# Altium integrated library WE-LQS_rev15b.intlib: 147 symbols (part 2 of 2)
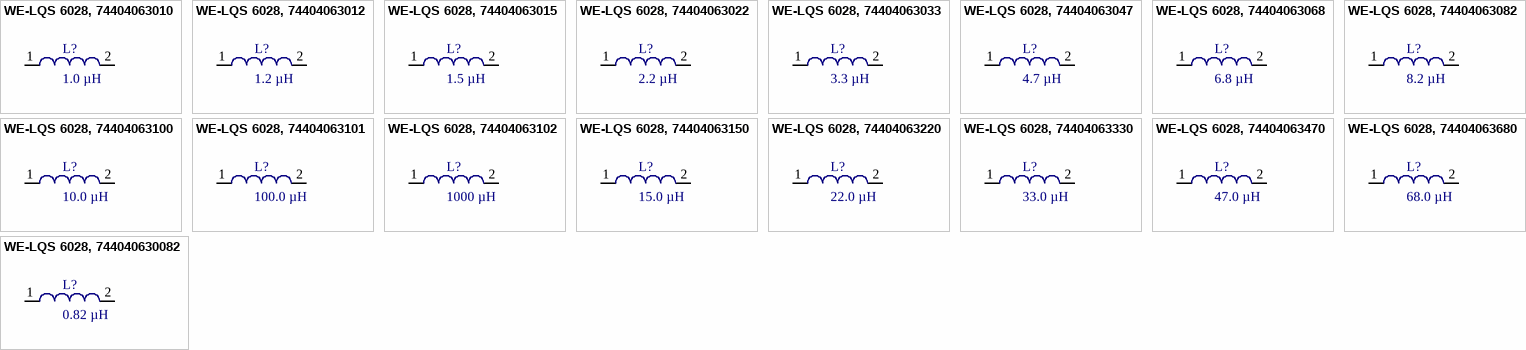
[diagram p9: symbols WE-LQS 6028, 74404063010 to WE-LQS 6028, 744040630082]

## WE-LQS 6028, 74404063680
designator L?, comment 68.0 µH
WE-LQS SMD Power Inductor, L=68.0 µH; partNo: 74404063680; Manufacturer: Wurth Elektronik; Inductance: 68.0 µH; ComponentLink1Description: Manufacturer; ComponentLink1URL: http://www.we-online.de; Created by: Karrer Zheng; Created Date: May 2014; ComponentLink2Description: Datasheet; ComponentLink2URL: http://katalog.we-online.de/pbs/datasheet/74404063680.pdf
footprint WE-LQS 6028 (SMD Power Inductor, 2-Leads, Body 6.0x6.0mm)
pins: 1, 2

## WE-LQS 6028, 744040630082
designator L?, comment 0.82 µH
WE-LQS SMD Power Inductor, L=0.82 µH; partNo: 744040630082; Manufacturer: Wurth Elektronik; Inductance: 0.82 µH; ComponentLink1Description: Manufacturer; ComponentLink1URL: http://www.we-online.de; Created by: Baojun Chen; Created Date: Aug. 2015; ComponentLink2Description: Datasheet; ComponentLink2URL: http://katalog.we-online.de/pbs/datasheet/744040630082.pdf
footprint WE-LQS 6028 (SMD Power Inductor, 2-Leads, Body 6.0x6.0mm)
pins: 1, 2


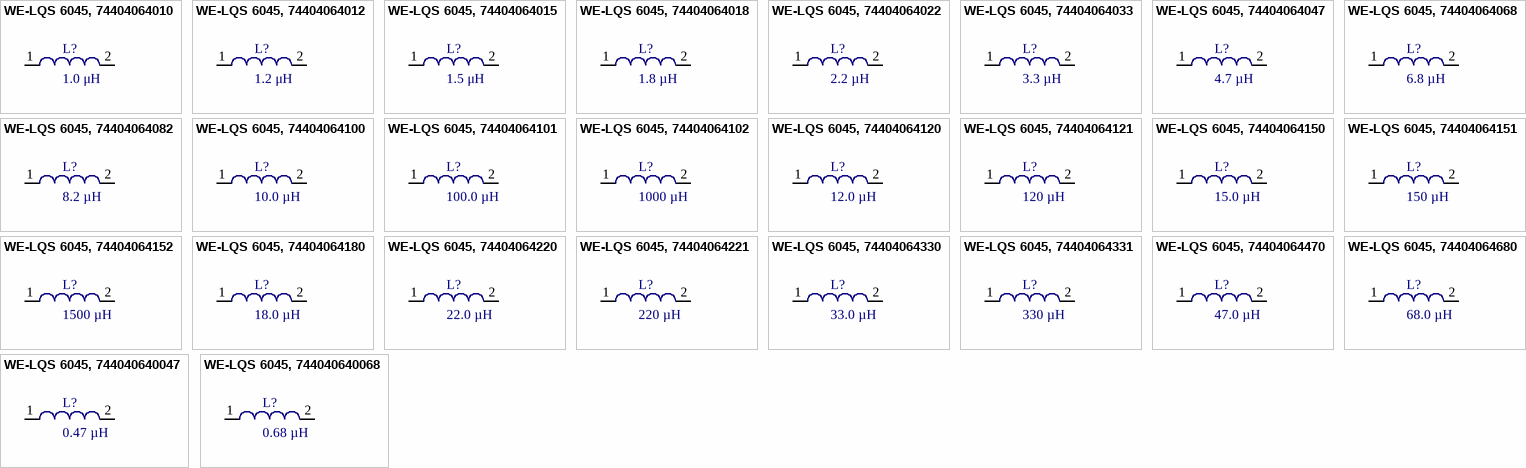
[diagram p7: symbols WE-LQS 6045, 74404064010 to WE-LQS 6045, 744040640068]

## WE-LQS 6045, 74404064010
designator L?, comment 1.0 μH
WE-LQS SMD Power Inductor, L=1.0μH; partNo: 74404064010; Manufacturer: Wurth Elektronik; Inductance: 1.0 μH; ComponentLink1Description: Manufacturer; ComponentLink1URL: http://www.we-online.de; Created by: Karrer Zheng; Created Date: May 2014; ComponentLink2Description: Datasheet; ComponentLink2URL: http://katalog.we-online.de/pbs/datasheet/74404064010.pdf
footprint WE-LQS 6045 (SMD Power Inductor, 2-Leads, Body 6.0x6.0mm)
pins: 1, 2

## WE-LQS 6045, 74404064012
designator L?, comment 1.2 μH
WE-LQS SMD Power Inductor, L=1.2μH; partNo: 74404064012; Manufacturer: Wurth Elektronik; Inductance: 1.2 μH; ComponentLink1Description: Manufacturer; ComponentLink1URL: http://www.we-online.de; Created by: Karrer Zheng; Created Date: May 2014; ComponentLink2Description: Datasheet; ComponentLink2URL: http://katalog.we-online.de/pbs/datasheet/74404064012.pdf
footprint WE-LQS 6045 (SMD Power Inductor, 2-Leads, Body 6.0x6.0mm)
pins: 1, 2

## WE-LQS 6045, 74404064015
designator L?, comment 1.5 μH
WE-LQS SMD Power Inductor, L=1.5 μH; partNo: 74404064015; Manufacturer: Wurth Elektronik; Inductance: 1.5 μH; ComponentLink1Description: Manufacturer; ComponentLink1URL: http://www.we-online.de; Created by: Karrer Zheng; Created Date: May 2014; ComponentLink2Description: Datasheet; ComponentLink2URL: http://katalog.we-online.de/pbs/datasheet/74404064015.pdf
footprint WE-LQS 6045 (SMD Power Inductor, 2-Leads, Body 6.0x6.0mm)
pins: 1, 2

## WE-LQS 6045, 74404064018
designator L?, comment 1.8 µH
WE-LQS SMD Power Inductor, L=1.8 µH; partNo: 74404064018; Manufacturer: Wurth Elektronik; Inductance: 1.8 µH; ComponentLink1Description: Manufacturer; ComponentLink1URL: http://www.we-online.de; Created by: Karrer Zheng; Created Date: May 2014; ComponentLink2Description: Datasheet; ComponentLink2URL: http://katalog.we-online.de/pbs/datasheet/74404064018.pdf
footprint WE-LQS 6045 (SMD Power Inductor, 2-Leads, Body 6.0x6.0mm)
pins: 1, 2

## WE-LQS 6045, 74404064022
designator L?, comment 2.2 µH
WE-LQS SMD Power Inductor, L=2.2 µH; partNo: 744040640022; Manufacturer: Wurth Elektronik; Inductance: 2.2 µH; ComponentLink1Description: Manufacturer; ComponentLink1URL: http://www.we-online.de; Created by: Karrer Zheng; Created Date: May 2014; ComponentLink2Description: Datasheet; ComponentLink2URL: http://katalog.we-online.de/pbs/datasheet/74404064022.pdf
footprint WE-LQS 6045 (SMD Power Inductor, 2-Leads, Body 6.0x6.0mm)
pins: 1, 2

## WE-LQS 6045, 74404064033
designator L?, comment 3.3 µH
WE-LQS SMD Power Inductor, L=3.3 µH; partNo: 74404064033; Manufacturer: Wurth Elektronik; Inductance: 3.3 µH; ComponentLink1Description: Manufacturer; ComponentLink1URL: http://www.we-online.de; Created by: Karrer Zheng; Created Date: May 2014; ComponentLink2Description: Datasheet; ComponentLink2URL: http://katalog.we-online.de/pbs/datasheet/74404064033.pdf
footprint WE-LQS 6045 (SMD Power Inductor, 2-Leads, Body 6.0x6.0mm)
pins: 1, 2

## WE-LQS 6045, 74404064047
designator L?, comment 4.7 µH
WE-LQS SMD Power Inductor, L=4.7 µH; partNo: 74404064047; Manufacturer: Wurth Elektronik; Inductance: 4.7 µH; ComponentLink1Description: Manufacturer; ComponentLink1URL: http://www.we-online.de; Created by: Karrer Zheng; Created Date: May 2014; ComponentLink2Description: Datasheet; ComponentLink2URL: http://katalog.we-online.de/pbs/datasheet/74404064047.pdf
footprint WE-LQS 6045 (SMD Power Inductor, 2-Leads, Body 6.0x6.0mm)
pins: 1, 2

## WE-LQS 6045, 74404064068
designator L?, comment 6.8 µH
WE-LQS SMD Power Inductor, L=6.8 µH; partNo: 74404064068; Manufacturer: Wurth Elektronik; Inductance: 6.8 µH; ComponentLink1Description: Manufacturer; ComponentLink1URL: http://www.we-online.de; Created by: Karrer Zheng; Created Date: May 2014; ComponentLink2Description: Datasheet; ComponentLink2URL: http://katalog.we-online.de/pbs/datasheet/74404064068.pdf
footprint WE-LQS 6045 (SMD Power Inductor, 2-Leads, Body 6.0x6.0mm)
pins: 1, 2

## WE-LQS 6045, 74404064082
designator L?, comment 8.2 µH
WE-LQS SMD Power Inductor, L=8.2 µH; partNo: 74404064082; Manufacturer: Wurth Elektronik; Inductance: 8.2 µH; ComponentLink1Description: Manufacturer; ComponentLink1URL: http://www.we-online.de; Created by: Karrer Zheng; Created Date: May 2014; ComponentLink2Description: Datasheet; ComponentLink2URL: http://katalog.we-online.de/pbs/datasheet/74404064082.pdf
footprint WE-LQS 6045 (SMD Power Inductor, 2-Leads, Body 6.0x6.0mm)
pins: 1, 2

## WE-LQS 6045, 74404064100
designator L?, comment 10.0 µH
WE-LQS SMD Power Inductor, L=10.0 µH; partNo: 74404064100; Manufacturer: Wurth Elektronik; Inductance: 10.0 µH; ComponentLink1Description: Manufacturer; ComponentLink1URL: http://www.we-online.de; Created by: Karrer Zheng; Created Date: May 2014; ComponentLink2Description: Datasheet; ComponentLink2URL: http://katalog.we-online.de/pbs/datasheet/74404064100.pdf
footprint WE-LQS 6045 (SMD Power Inductor, 2-Leads, Body 6.0x6.0mm)
pins: 1, 2

## WE-LQS 6045, 74404064101
designator L?, comment 100.0 µH
WE-LQS SMD Power Inductor, L=100.0 µH; partNo: 74404064101; Manufacturer: Wurth Elektronik; Inductance: 100.0 µH; ComponentLink1Description: Manufacturer; ComponentLink1URL: http://www.we-online.de; Created by: Karrer Zheng; Created Date: May 2014; ComponentLink2Description: Datasheet; ComponentLink2URL: http://katalog.we-online.de/pbs/datasheet/74404064101.pdf
footprint WE-LQS 6045 (SMD Power Inductor, 2-Leads, Body 6.0x6.0mm)
pins: 1, 2

## WE-LQS 6045, 74404064102
designator L?, comment 1000 µH
WE-LQS SMD Power Inductor, L=1000 µH; partNo: 74404064102; Manufacturer: Wurth Elektronik; Inductance: 1000 µH; ComponentLink1Description: Manufacturer; ComponentLink1URL: http://www.we-online.de; Created by: Baojun Chen; Created Date: Aug. 2015; ComponentLink2Description: Datasheet; ComponentLink2URL: http://katalog.we-online.de/pbs/datasheet/74404064102.pdf
footprint WE-LQS 6045 (SMD Power Inductor, 2-Leads, Body 6.0x6.0mm)
pins: 1, 2

## WE-LQS 6045, 74404064120
designator L?, comment 12.0 µH
WE-LQS SMD Power Inductor, L=12.0 µH; partNo: 74404064120; Manufacturer: Wurth Elektronik; Inductance: 12.0 µH; ComponentLink1Description: Manufacturer; ComponentLink1URL: http://www.we-online.de; Created by: Karrer Zheng; Created Date: May 2014; ComponentLink2Description: Datasheet; ComponentLink2URL: http://katalog.we-online.de/pbs/datasheet/74404064120.pdf
footprint WE-LQS 6045 (SMD Power Inductor, 2-Leads, Body 6.0x6.0mm)
pins: 1, 2

## WE-LQS 6045, 74404064121
designator L?, comment 120 µH
WE-LQS SMD Power Inductor, L=120 µH; partNo: 74404064121; Manufacturer: Wurth Elektronik; Inductance: 120 µH; ComponentLink1Description: Manufacturer; ComponentLink1URL: http://www.we-online.de; Created by: Baojun Chen; Created Date: Aug. 2015; ComponentLink2Description: Datasheet; ComponentLink2URL: http://katalog.we-online.de/pbs/datasheet/74404064121.pdf
footprint WE-LQS 6045 (SMD Power Inductor, 2-Leads, Body 6.0x6.0mm)
pins: 1, 2

## WE-LQS 6045, 74404064150
designator L?, comment 15.0 µH
WE-LQS SMD Power Inductor, L=15.0 µH; partNo: 74404064150; Manufacturer: Wurth Elektronik; Inductance: 15.0 µH; ComponentLink1Description: Manufacturer; ComponentLink1URL: http://www.we-online.de; Created by: Karrer Zheng; Created Date: May 2014; ComponentLink2Description: Datasheet; ComponentLink2URL: http://katalog.we-online.de/pbs/datasheet/74404064150.pdf
footprint WE-LQS 6045 (SMD Power Inductor, 2-Leads, Body 6.0x6.0mm)
pins: 1, 2

## WE-LQS 6045, 74404064151
designator L?, comment 150 µH
WE-LQS SMD Power Inductor, L=150 µH; partNo: 74404064151; Manufacturer: Wurth Elektronik; Inductance: 150 µH; ComponentLink1Description: Manufacturer; ComponentLink1URL: http://www.we-online.de; Created by: Baojun Chen; Created Date: Aug. 2015; ComponentLink2Description: Datasheet; ComponentLink2URL: http://katalog.we-online.de/pbs/datasheet/74404064151.pdf
footprint WE-LQS 6045 (SMD Power Inductor, 2-Leads, Body 6.0x6.0mm)
pins: 1, 2

## WE-LQS 6045, 74404064152
designator L?, comment 1500 µH
WE-LQS SMD Power Inductor, L=1500 µH; partNo: 74404064152; Manufacturer: Wurth Elektronik; Inductance: 1500 µH; ComponentLink1Description: Manufacturer; ComponentLink1URL: http://www.we-online.de; Created by: Baojun Chen; Created Date: Aug. 2015; ComponentLink2Description: Datasheet; ComponentLink2URL: http://katalog.we-online.de/pbs/datasheet/74404064152.pdf
footprint WE-LQS 6045 (SMD Power Inductor, 2-Leads, Body 6.0x6.0mm)
pins: 1, 2

## WE-LQS 6045, 74404064180
designator L?, comment 18.0 µH
WE-LQS SMD Power Inductor, L=18.0 µH; partNo: 74404064180; Manufacturer: Wurth Elektronik; Inductance: 18.0 µH; ComponentLink1Description: Manufacturer; ComponentLink1URL: http://www.we-online.de; Created by: Karrer Zheng; Created Date: May 2014; ComponentLink2Description: Datasheet; ComponentLink2URL: http://katalog.we-online.de/pbs/datasheet/74404064180.pdf
footprint WE-LQS 6045 (SMD Power Inductor, 2-Leads, Body 6.0x6.0mm)
pins: 1, 2

## WE-LQS 6045, 74404064220
designator L?, comment 22.0 µH
WE-LQS SMD Power Inductor, L=22.0 µH; partNo: 74404064220; Manufacturer: Wurth Elektronik; Inductance: 22.0 µH; ComponentLink1Description: Manufacturer; ComponentLink1URL: http://www.we-online.de; Created by: Karrer Zheng; Created Date: May 2014; ComponentLink2Description: Datasheet; ComponentLink2URL: http://katalog.we-online.de/pbs/datasheet/74404064220.pdf
footprint WE-LQS 6045 (SMD Power Inductor, 2-Leads, Body 6.0x6.0mm)
pins: 1, 2

## WE-LQS 6045, 74404064221
designator L?, comment 220 µH
WE-LQS SMD Power Inductor, L=220 µH; partNo: 74404064221; Manufacturer: Wurth Elektronik; Inductance: 220 µH; ComponentLink1Description: Manufacturer; ComponentLink1URL: http://www.we-online.de; Created by: Baojun Chen; Created Date: Aug. 2015; ComponentLink2Description: Datasheet; ComponentLink2URL: http://katalog.we-online.de/pbs/datasheet/74404064221.pdf
footprint WE-LQS 6045 (SMD Power Inductor, 2-Leads, Body 6.0x6.0mm)
pins: 1, 2

## WE-LQS 6045, 74404064330
designator L?, comment 33.0 µH
WE-LQS SMD Power Inductor, L=33.0 µH; partNo: 74404064330; Manufacturer: Wurth Elektronik; Inductance: 33.0 µH; ComponentLink1Description: Manufacturer; ComponentLink1URL: http://www.we-online.de; Created by: Karrer Zheng; Created Date: May 2014; ComponentLink2Description: Datasheet; ComponentLink2URL: http://katalog.we-online.de/pbs/datasheet/74404064330.pdf
footprint WE-LQS 6045 (SMD Power Inductor, 2-Leads, Body 6.0x6.0mm)
pins: 1, 2

## WE-LQS 6045, 74404064331
designator L?, comment 330 µH
WE-LQS SMD Power Inductor, L=330 µH; partNo: 74404064331; Manufacturer: Wurth Elektronik; Inductance: 330 µH; ComponentLink1Description: Manufacturer; ComponentLink1URL: http://www.we-online.de; Created by: Baojun Chen; Created Date: Aug. 2015; ComponentLink2Description: Datasheet; ComponentLink2URL: http://katalog.we-online.de/pbs/datasheet/74404064331.pdf
footprint WE-LQS 6045 (SMD Power Inductor, 2-Leads, Body 6.0x6.0mm)
pins: 1, 2

## WE-LQS 6045, 74404064470
designator L?, comment 47.0 µH
WE-LQS SMD Power Inductor, L=47.0 µH; partNo: 74404064470; Manufacturer: Wurth Elektronik; Inductance: 47.0 µH; ComponentLink1Description: Manufacturer; ComponentLink1URL: http://www.we-online.de; Created by: Karrer Zheng; Created Date: May 2014; ComponentLink2Description: Datasheet; ComponentLink2URL: http://katalog.we-online.de/pbs/datasheet/74404064470.pdf
footprint WE-LQS 6045 (SMD Power Inductor, 2-Leads, Body 6.0x6.0mm)
pins: 1, 2

## WE-LQS 6045, 74404064680
designator L?, comment 68.0 µH
WE-LQS SMD Power Inductor, L=68.0 µH; partNo: 74404064680; Manufacturer: Wurth Elektronik; Inductance: 68.0 µH; ComponentLink1Description: Manufacturer; ComponentLink1URL: http://www.we-online.de; Created by: Karrer Zheng; Created Date: May 2014; ComponentLink2Description: Datasheet; ComponentLink2URL: http://katalog.we-online.de/pbs/datasheet/74404064680.pdf
footprint WE-LQS 6045 (SMD Power Inductor, 2-Leads, Body 6.0x6.0mm)
pins: 1, 2

## WE-LQS 6045, 744040640047
designator L?, comment 0.47 µH
WE-LQS SMD Power Inductor, L=0.47 µH; partNo: 744040640047; Manufacturer: Wurth Elektronik; Inductance: 0.47 µH; ComponentLink1Description: Manufacturer; ComponentLink1URL: http://www.we-online.de; Created by: Baojun Chen; Created Date: Aug. 2015; ComponentLink2Description: Datasheet; ComponentLink2URL: http://katalog.we-online.de/pbs/datasheet/744040640047.pdf
footprint WE-LQS 6045 (SMD Power Inductor, 2-Leads, Body 6.0x6.0mm)
pins: 1, 2

## WE-LQS 6045, 744040640068
designator L?, comment 0.68 µH
WE-LQS SMD Power Inductor, L=0.68 µH; partNo: 744040640068; Manufacturer: Wurth Elektronik; Inductance: 0.68 µH; ComponentLink1Description: Manufacturer; ComponentLink1URL: http://www.we-online.de; Created by: Baojun Chen; Created Date: Aug. 2015; ComponentLink2Description: Datasheet; ComponentLink2URL: http://katalog.we-online.de/pbs/datasheet/744040640068.pdf
footprint WE-LQS 6045 (SMD Power Inductor, 2-Leads, Body 6.0x6.0mm)
pins: 1, 2


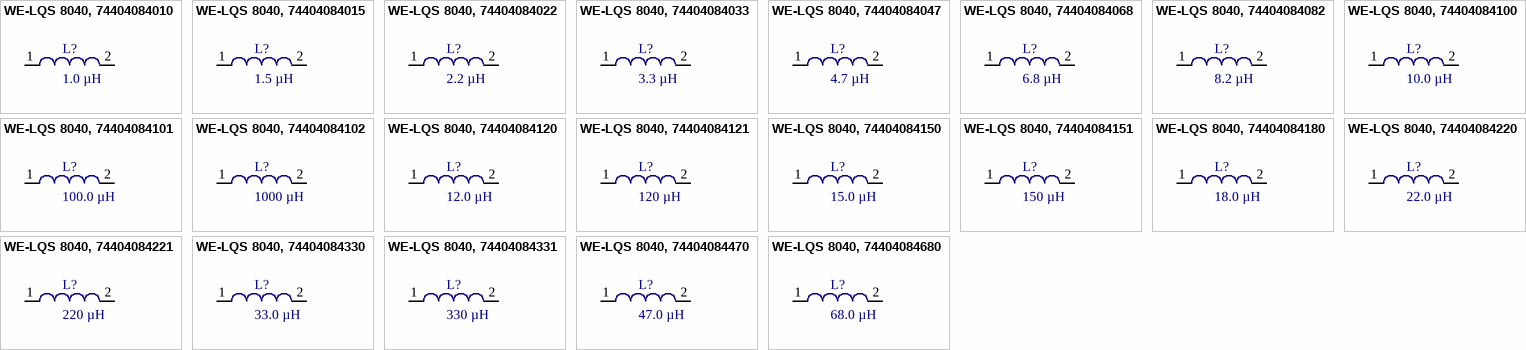
[diagram p8: symbols WE-LQS 8040, 74404084010 to WE-LQS 8040, 74404084680]

## WE-LQS 8040, 74404084010
designator L?, comment 1.0 µH
WE-LQS SMD Power Inductor, L=1.0 µH; partNo: 74404084010; Manufacturer: Wurth Elektronik; Inductance: 1.0 µH; ComponentLink1Description: Manufacturer; ComponentLink1URL: http://www.we-online.de; Created by: Karrer Zheng; Created Date: May 2014; ComponentLink2Description: Datasheet; ComponentLink2URL: http://katalog.we-online.de/pbs/datasheet/74404084010.pdf
footprint WE-LQS 8040 (SMD Power Inductor, 2-Leads, Body 8.0x8.0mm)
pins: 1, 2

## WE-LQS 8040, 74404084015
designator L?, comment 1.5 µH
WE-LQS SMD Power Inductor, L=1.5 µH; partNo: 74404084015; Manufacturer: Wurth Elektronik; Inductance: 1.5 µH; ComponentLink1Description: Manufacturer; ComponentLink1URL: http://www.we-online.de; Created by: Karrer Zheng; Created Date: May 2014; ComponentLink2Description: Datasheet; ComponentLink2URL: http://katalog.we-online.de/pbs/datasheet/74404084015.pdf
footprint WE-LQS 8040 (SMD Power Inductor, 2-Leads, Body 8.0x8.0mm)
pins: 1, 2

## WE-LQS 8040, 74404084022
designator L?, comment 2.2 µH
WE-LQS SMD Power Inductor, L=2.2 µH; partNo: 744040840022; Manufacturer: Wurth Elektronik; Inductance: 2.2 µH; ComponentLink1Description: Manufacturer; ComponentLink1URL: http://www.we-online.de; Created by: Karrer Zheng; Created Date: May 2014; ComponentLink2Description: Datasheet; ComponentLink2URL: http://katalog.we-online.de/pbs/datasheet/74404084022.pdf
footprint WE-LQS 8040 (SMD Power Inductor, 2-Leads, Body 8.0x8.0mm)
pins: 1, 2

## WE-LQS 8040, 74404084033
designator L?, comment 3.3 µH
WE-LQS SMD Power Inductor, L=3.3 µH; partNo: 74404084033; Manufacturer: Wurth Elektronik; Inductance: 3.3 µH; ComponentLink1Description: Manufacturer; ComponentLink1URL: http://www.we-online.de; Created by: Karrer Zheng; Created Date: May 2014; ComponentLink2Description: Datasheet; ComponentLink2URL: http://katalog.we-online.de/pbs/datasheet/74404084033.pdf
footprint WE-LQS 8040 (SMD Power Inductor, 2-Leads, Body 8.0x8.0mm)
pins: 1, 2

## WE-LQS 8040, 74404084047
designator L?, comment 4.7 µH
WE-LQS SMD Power Inductor, L=4.7 µH; partNo: 74404084047; Manufacturer: Wurth Elektronik; Inductance: 4.7 µH; ComponentLink1Description: Manufacturer; ComponentLink1URL: http://www.we-online.de; Created by: Karrer Zheng; Created Date: May 2014; ComponentLink2Description: Datasheet; ComponentLink2URL: http://katalog.we-online.de/pbs/datasheet/74404084047.pdf
footprint WE-LQS 8040 (SMD Power Inductor, 2-Leads, Body 8.0x8.0mm)
pins: 1, 2

## WE-LQS 8040, 74404084068
designator L?, comment 6.8 µH
WE-LQS SMD Power Inductor, L=6.8 µH; partNo: 74404084068; Manufacturer: Wurth Elektronik; Inductance: 6.8 µH; ComponentLink1Description: Manufacturer; ComponentLink1URL: http://www.we-online.de; Created by: Karrer Zheng; Created Date: May 2014; ComponentLink2Description: Datasheet; ComponentLink2URL: http://katalog.we-online.de/pbs/datasheet/74404084068.pdf
footprint WE-LQS 8040 (SMD Power Inductor, 2-Leads, Body 8.0x8.0mm)
pins: 1, 2

## WE-LQS 8040, 74404084082
designator L?, comment 8.2 µH
WE-LQS SMD Power Inductor, L=8.2 µH; partNo: 74404084082; Manufacturer: Wurth Elektronik; Inductance: 8.2 µH; ComponentLink1Description: Manufacturer; ComponentLink1URL: http://www.we-online.de; Created by: Karrer Zheng; Created Date: May 2014; ComponentLink2Description: Datasheet; ComponentLink2URL: http://katalog.we-online.de/pbs/datasheet/74404084082.pdf
footprint WE-LQS 8040 (SMD Power Inductor, 2-Leads, Body 8.0x8.0mm)
pins: 1, 2

## WE-LQS 8040, 74404084100
designator L?, comment 10.0 µH
WE-LQS SMD Power Inductor, L=10.0 µH; partNo: 74404084100; Manufacturer: Wurth Elektronik; Inductance: 10.0 µH; ComponentLink1Description: Manufacturer; ComponentLink1URL: http://www.we-online.de; Created by: Karrer Zheng; Created Date: May 2014; ComponentLink2Description: Datasheet; ComponentLink2URL: http://katalog.we-online.de/pbs/datasheet/74404084100.pdf
footprint WE-LQS 8040 (SMD Power Inductor, 2-Leads, Body 8.0x8.0mm)
pins: 1, 2

## WE-LQS 8040, 74404084101
designator L?, comment 100.0 µH
WE-LQS SMD Power Inductor, L=100.0 µH; partNo: 74404084101; Manufacturer: Wurth Elektronik; Inductance: 100.0 µH; ComponentLink1Description: Manufacturer; ComponentLink1URL: http://www.we-online.de; Created by: Karrer Zheng; Created Date: May 2014; ComponentLink2Description: Datasheet; ComponentLink2URL: http://katalog.we-online.de/pbs/datasheet/74404084101.pdf
footprint WE-LQS 8040 (SMD Power Inductor, 2-Leads, Body 8.0x8.0mm)
pins: 1, 2

## WE-LQS 8040, 74404084102
designator L?, comment 1000 µH
WE-LQS SMD Power Inductor, L=1000 µH; partNo: 74404084102; Manufacturer: Wurth Elektronik; Inductance: 1000 µH; ComponentLink1Description: Manufacturer; ComponentLink1URL: http://www.we-online.de; Created by: Baojun Chen; Created Date: Aug. 2015; ComponentLink2Description: Datasheet; ComponentLink2URL: http://katalog.we-online.de/pbs/datasheet/74404084102.pdf
footprint WE-LQS 8040 (SMD Power Inductor, 2-Leads, Body 8.0x8.0mm)
pins: 1, 2

## WE-LQS 8040, 74404084120
designator L?, comment 12.0 µH
WE-LQS SMD Power Inductor, L=12.0 µH; partNo: 74404084120; Manufacturer: Wurth Elektronik; Inductance: 12.0 µH; ComponentLink1Description: Manufacturer; ComponentLink1URL: http://www.we-online.de; Created by: Karrer Zheng; Created Date: May 2014; ComponentLink2Description: Datasheet; ComponentLink2URL: http://katalog.we-online.de/pbs/datasheet/74404084120.pdf
footprint WE-LQS 8040 (SMD Power Inductor, 2-Leads, Body 8.0x8.0mm)
pins: 1, 2

## WE-LQS 8040, 74404084121
designator L?, comment 120 µH
WE-LQS SMD Power Inductor, L=120 µH; partNo: 74404084121; Manufacturer: Wurth Elektronik; Inductance: 120 µH; ComponentLink1Description: Manufacturer; ComponentLink1URL: http://www.we-online.de; Created by: Baojun Chen; Created Date: Aug. 2015; ComponentLink2Description: Datasheet; ComponentLink2URL: http://katalog.we-online.de/pbs/datasheet/74404084121.pdf
footprint WE-LQS 8040 (SMD Power Inductor, 2-Leads, Body 8.0x8.0mm)
pins: 1, 2

## WE-LQS 8040, 74404084150
designator L?, comment 15.0 µH
WE-LQS SMD Power Inductor, L=15.0 µH; partNo: 74404084150; Manufacturer: Wurth Elektronik; Inductance: 15.0 µH; ComponentLink1Description: Manufacturer; ComponentLink1URL: http://www.we-online.de; Created by: Karrer Zheng; Created Date: May 2014; ComponentLink2Description: Datasheet; ComponentLink2URL: http://katalog.we-online.de/pbs/datasheet/74404084150.pdf
footprint WE-LQS 8040 (SMD Power Inductor, 2-Leads, Body 8.0x8.0mm)
pins: 1, 2

## WE-LQS 8040, 74404084151
designator L?, comment 150 µH
WE-LQS SMD Power Inductor, L=150 µH; partNo: 74404084151; Manufacturer: Wurth Elektronik; Inductance: 150 µH; ComponentLink1Description: Manufacturer; ComponentLink1URL: http://www.we-online.de; Created by: Baojun Chen; Created Date: Aug. 2015; ComponentLink2Description: Datasheet; ComponentLink2URL: http://katalog.we-online.de/pbs/datasheet/74404084151.pdf
footprint WE-LQS 8040 (SMD Power Inductor, 2-Leads, Body 8.0x8.0mm)
pins: 1, 2

## WE-LQS 8040, 74404084180
designator L?, comment 18.0 µH
WE-LQS SMD Power Inductor, L=18.0 µH; partNo: 74404084180; Manufacturer: Wurth Elektronik; Inductance: 18.0 µH; ComponentLink1Description: Manufacturer; ComponentLink1URL: http://www.we-online.de; Created by: Karrer Zheng; Created Date: May 2014; ComponentLink2Description: Datasheet; ComponentLink2URL: http://katalog.we-online.de/pbs/datasheet/74404084180.pdf
footprint WE-LQS 8040 (SMD Power Inductor, 2-Leads, Body 8.0x8.0mm)
pins: 1, 2

## WE-LQS 8040, 74404084220
designator L?, comment 22.0 µH
WE-LQS SMD Power Inductor, L=22.0 µH; partNo: 74404084220; Manufacturer: Wurth Elektronik; Inductance: 22.0 µH; ComponentLink1Description: Manufacturer; ComponentLink1URL: http://www.we-online.de; Created by: Karrer Zheng; Created Date: May 2014; ComponentLink2Description: Datasheet; ComponentLink2URL: http://katalog.we-online.de/pbs/datasheet/74404084220.pdf
footprint WE-LQS 8040 (SMD Power Inductor, 2-Leads, Body 8.0x8.0mm)
pins: 1, 2

## WE-LQS 8040, 74404084221
designator L?, comment 220 µH
WE-LQS SMD Power Inductor, L=220 µH; partNo: 74404084221; Manufacturer: Wurth Elektronik; Inductance: 220 µH; ComponentLink1Description: Manufacturer; ComponentLink1URL: http://www.we-online.de; Created by: Baojun Chen; Created Date: Aug. 2015; ComponentLink2Description: Datasheet; ComponentLink2URL: http://katalog.we-online.de/pbs/datasheet/74404084221.pdf
footprint WE-LQS 8040 (SMD Power Inductor, 2-Leads, Body 8.0x8.0mm)
pins: 1, 2

## WE-LQS 8040, 74404084330
designator L?, comment 33.0 µH
WE-LQS SMD Power Inductor, L=33.0 µH; partNo: 74404084330; Manufacturer: Wurth Elektronik; Inductance: 33.0 µH; ComponentLink1Description: Manufacturer; ComponentLink1URL: http://www.we-online.de; Created by: Karrer Zheng; Created Date: May 2014; ComponentLink2Description: Datasheet; ComponentLink2URL: http://katalog.we-online.de/pbs/datasheet/74404084330.pdf
footprint WE-LQS 8040 (SMD Power Inductor, 2-Leads, Body 8.0x8.0mm)
pins: 1, 2

## WE-LQS 8040, 74404084331
designator L?, comment 330 µH
WE-LQS SMD Power Inductor, L=330 µH; partNo: 74404084331; Manufacturer: Wurth Elektronik; Inductance: 330 µH; ComponentLink1Description: Manufacturer; ComponentLink1URL: http://www.we-online.de; Created by: Baojun Chen; Created Date: Aug. 2015; ComponentLink2Description: Datasheet; ComponentLink2URL: http://katalog.we-online.de/pbs/datasheet/74404084331.pdf
footprint WE-LQS 8040 (SMD Power Inductor, 2-Leads, Body 8.0x8.0mm)
pins: 1, 2

## WE-LQS 8040, 74404084470
designator L?, comment 47.0 µH
WE-LQS SMD Power Inductor, L=47.0 µH; partNo: 74404084470; Manufacturer: Wurth Elektronik; Inductance: 47.0 µH; ComponentLink1Description: Manufacturer; ComponentLink1URL: http://www.we-online.de; Created by: Karrer Zheng; Created Date: May 2014; ComponentLink2Description: Datasheet; ComponentLink2URL: http://katalog.we-online.de/pbs/datasheet/74404084470.pdf
footprint WE-LQS 8040 (SMD Power Inductor, 2-Leads, Body 8.0x8.0mm)
pins: 1, 2

## WE-LQS 8040, 74404084680
designator L?, comment 68.0 µH
WE-LQS SMD Power Inductor, L=68.0 µH; partNo: 74404084680; Manufacturer: Wurth Elektronik; Inductance: 68.0 µH; ComponentLink1Description: Manufacturer; ComponentLink1URL: http://www.we-online.de; Created by: Karrer Zheng; Created Date: May 2014; ComponentLink2Description: Datasheet; ComponentLink2URL: http://katalog.we-online.de/pbs/datasheet/74404084680.pdf
footprint WE-LQS 8040 (SMD Power Inductor, 2-Leads, Body 8.0x8.0mm)
pins: 1, 2